# EAGLE library part DS2781E (library duckgauge)
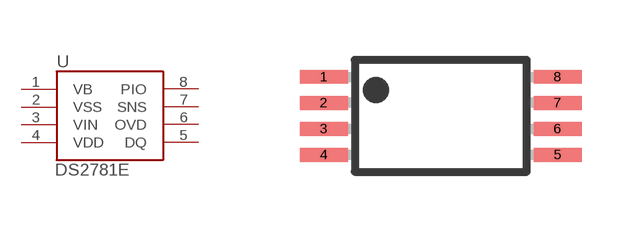
[diagram p0: symbol with the pads of TSSOP8; footprint TSSOP8]

Designator prefix -

## DS2781E  [TSSOP8]
1  VB
2  VSS
3  VIN
4  VDD
5  DQ
6  OVD
7  SNS
8  PIO

## Footprint TSSOP8 (pad centres in mm)
Plastic Small Outline
smd 1.2 x 0.35: 1 -2.925,0.975; 2 -2.925,0.325; 3 -2.925,-0.325; 4 -2.925,-0.975; 5 2.925,-0.975; 6 2.925,-0.325; 7 2.925,0.325; 8 2.925,0.975